# Altium schematic symbol library USB_Connector_Series_SCH_Library_ARAF.SchLib: 1 symbol
Pins are listed as number, name and electrical type; pins without a type are passive.

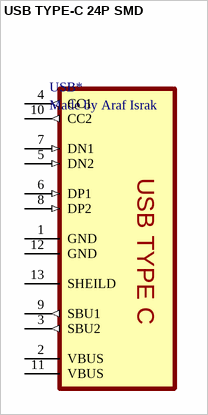
[diagram p0: symbol USB TYPE-C 24P SMD]

## USB TYPE-C 24P SMD
designator USB*, comment Made by Araf Israk
USB Type: TYPE-C 16PIN / 24PIN; Gender: Female; Current Rating: 5 Amp; Voltage Rating: 3.3V - 48V; Pin Number: 16; ComponentLink1Description: lcsc; ComponentLink1URL: https://www.lcsc.com/product-detail/USB-Connectors_SHOU-HAN-TYPE-C-16PIN-2MD-073_C2765186.html; ComponentLink2Description: datasheet 1; ComponentLink2URL: https://www.lcsc.com/datasheet/lcsc_datasheet_2111231930_SHOU-HAN-TYPE-C-16PIN-2MD-073_C2765186.pdf; ComponentLink3Description: datasheet 2; ComponentLink3URL: https://www.digikey.com/en/products/detail/gct/USB4105-GF-A/11198441; ComponentLink4Description: aliexpress; ComponentLink4URL: https://www.aliexpress.com/item/1005006353547160.html?spm=a2g0o.order_list.order_list_main.61.296f18023vUA5z; LCSC Part: C2765186; Stock: ~30
footprint USB TYPE-C 24P SMD
pins: 1 GND (power), 2 VBUS (power), 3 SBU2 (out), 4 CC1 (out), 5 DN2 (in), 6 DP1 (in), 7 DN1 (in), 8 DP2 (in), 9 SBU1 (out), 10 CC2 (out), 11 VBUS (power), 12 GND (power), 13 SHEILD
text: USB TYPE C